# Altium footprint library Connector_BTB.PcbLib: 1 footprints
Each footprint in its own frame and in the unit in brackets; x right, y up, seen from the top. Pads: shape width x height; smd on the part's side, far side on the other; paste and mask are expansions set on the pad; w line width, h text height; cw(c..) or ccw(c..) is an arc to the next point about the centre after c.
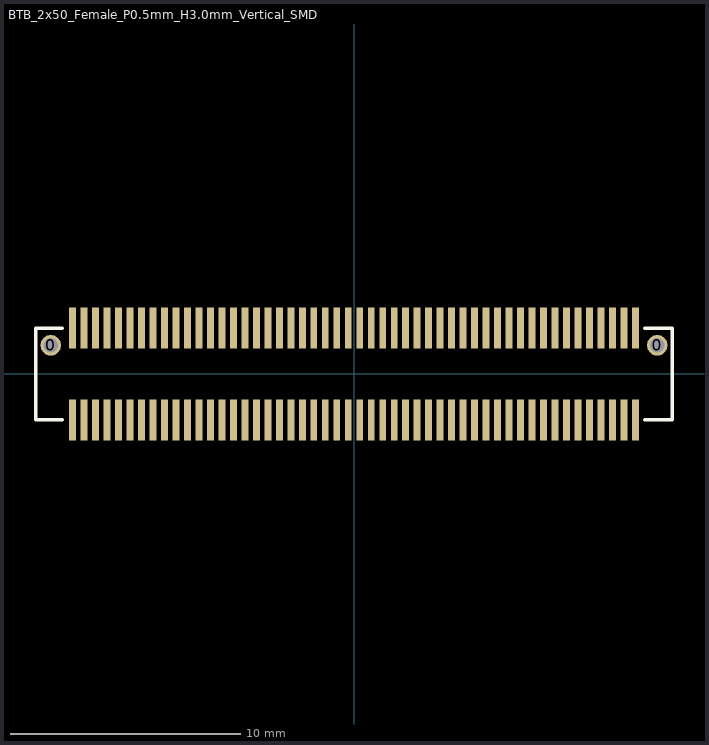
[diagram p0: the footprint, top view; thin cyan lines are the x and y axes]

## BTB_2x50_Female_P0.5mm_H3.0mm_Vertical_SMD [mm]
pads (102):
  round 0.9 hole 0.65: 0(-13.2,1.25) 0(13.2,1.25)
  rect 0.3x1.8 smd: 1(-12.25,2) 2(-11.75,2) 3(-11.25,2) 4(-10.75,2) 5(-10.25,2) 6(-9.75,2) 7(-9.25,2) 8(-8.75,2) 9(-8.25,2) 10(-7.75,2) 11(-7.25,2) 12(-6.75,2) 13(-6.25,2) 14(-5.75,2) 15(-5.25,2) 16(-4.75,2) 17(-4.25,2) 18(-3.75,2) 19(-3.25,2) 20(-2.75,2) 21(-2.25,2) 22(-1.75,2) 23(-1.25,2) 24(-0.75,2) 25(-0.25,2) 26(0.25,2) 27(0.75,2) 28(1.25,2) 29(1.75,2) 30(2.25,2) 31(2.75,2) 32(3.25,2) 33(3.75,2) 34(4.25,2) 35(4.75,2) 36(5.25,2) 37(5.75,2) 38(6.25,2) 39(6.75,2) 40(7.25,2) 41(7.75,2) 42(8.25,2) 43(8.75,2) 44(9.25,2) 45(9.75,2) 46(10.25,2) 47(10.75,2) 48(11.25,2) 49(11.75,2) 50(12.25,2) 51(12.25,-2) 52(11.75,-2) 53(11.25,-2) 54(10.75,-2) 55(10.25,-2) 56(9.75,-2) 57(9.25,-2) 58(8.75,-2) 59(8.25,-2) 60(7.75,-2) 61(7.25,-2) 62(6.75,-2) 63(6.25,-2) 64(5.75,-2) 65(5.25,-2) 66(4.75,-2) 67(4.25,-2) 68(3.75,-2) 69(3.25,-2) 70(2.75,-2) 71(2.25,-2) 72(1.75,-2) 73(1.25,-2) 74(0.75,-2) 75(0.25,-2) 76(-0.25,-2) 77(-0.75,-2) 78(-1.25,-2) 79(-1.75,-2) 80(-2.25,-2) 81(-2.75,-2) 82(-3.25,-2) 83(-3.75,-2) 84(-4.25,-2) 85(-4.75,-2) 86(-5.25,-2) 87(-5.75,-2) 88(-6.25,-2) 89(-6.75,-2) 90(-7.25,-2) 91(-7.75,-2) 92(-8.25,-2) 93(-8.75,-2) 94(-9.25,-2) 95(-9.75,-2) 96(-10.25,-2) 97(-10.75,-2) 98(-11.25,-2) 99(-11.75,-2) 100(-12.25,-2)
Top Overlay:
  lines w0.15: -12.7,-2 -13.85,-2 -13.85,2 -12.7,2 ; 12.649,-2 13.85,-2 13.85,2 12.649,2